# Altium schematic symbol library Transistor_PNP.SchLib: 4 symbols
Pins are listed as number, name and electrical type; pins without a type are passive.

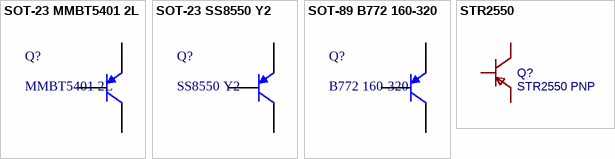
[diagram p0: symbols SOT-23 MMBT5401 2L to STR2550]

## SOT-23 MMBT5401 2L
designator Q?, comment MMBT5401 2L
三极管; ComponentLink1Description: 供应商链接; ComponentLink1URL: http://www.szlcsc.com/product/details_8818.html; Package: SOT-23; Supplier: LC; SuppliersPartNumber: C8326
footprint SOT-23(SOT-23-3)
pins: 1 B, 2 E, 3 C

## SOT-23 SS8550 Y2
designator Q?, comment SS8550 Y2
三极管; ComponentLink1Description: 供应商链接; ComponentLink1URL: http://www.szlcsc.com/product/details_9037.html; Package: SOT-23; Supplier: LC; SuppliersPartNumber: C8542
footprint SOT-23(SOT-23-3)
pins: 1 B, 2 E, 3 C

## SOT-89 B772 160-320
designator Q?, comment B772 160-320
三极管; ComponentLink1Description: 供应商链接; ComponentLink1URL: http://www.szlcsc.com/product/details_25018.html; Package: SOT-89; Supplier: LC; SuppliersPartNumber: C24278
footprint SOT-89(SOT-89-3)
pins: 1 B, 2 C, 3 E

## STR2550
designator Q?, comment STR2550 PNP
BOM_Manufacturer: STMicroelectronics; Contributor: LCSC; SMT Type: Extend; BOM_Supplier: LCSC; BOM_Supplier Part: C377933; BOM_Manufacturer Part: STR2550; BOM_LCSC Assembly: Yes; spicePre: Q; spiceSymbolName: STR2550
footprint SOT-23(SOT-23-3)
pins: 1 B, 2 E, 3 C